# EAGLE library part SMD-BLACK-FEMALE-HEADER(8P-2.54-90D) (library Seeed-OPL-Connector)
320030133
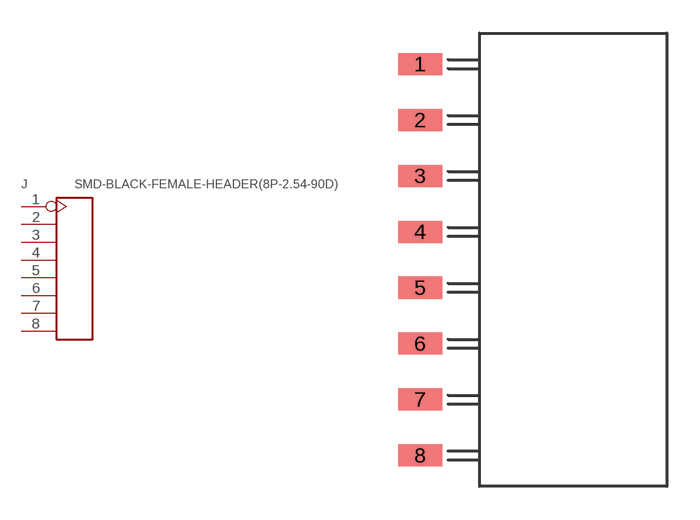
[diagram p138: symbol with the pads of H8-SMD-2.54-90D; footprint H8-SMD-2.54-90D]

Designator prefix J

## SMD-BLACK-FEMALE-HEADER(8P-2.54-90D) (MPN: F185-1108A0BZYA1; VALUE: 8p-2.54-90d)  [H8-SMD-2.54-90D]
1  1
2  2
3  3
4  4
5  5
6  6
7  7
8  8

## Footprint H8-SMD-2.54-90D (pad centres in mm)
smd 2 x 1: 1 0,8.89; 2 0,6.35; 3 0,3.81; 4 0,1.27; 5 0,-1.27; 6 0,-3.81; 7 0,-6.35; 8 0,-8.89